# Altium schematic symbol library BMS_slave_v2.SCHLIB: 16 symbols
Pins are listed as number, name and electrical type; pins without a type are passive.

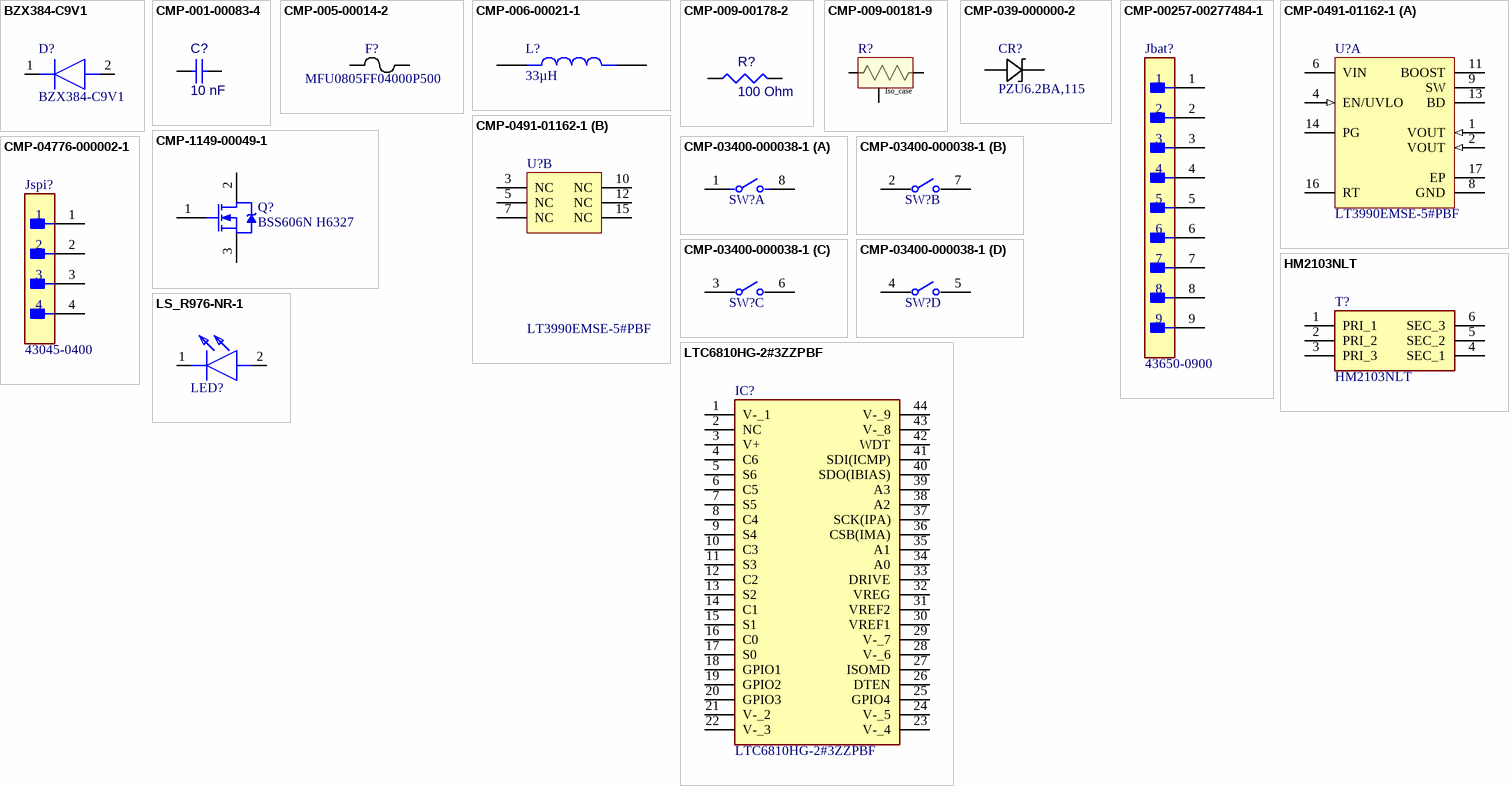
[diagram p0: symbols BZX384-C9V1 to LTC6810HG-2#3ZZPBF]

## BZX384-C9V1
designator D?
Diode; Manufacturer_Name: Nexperia; Datasheet Link: https://datasheet.datasheetarchive.com/originals/distributors/Datasheets-301/11577.pdf; Height: 1.1mm; Manufacturer_Part_Number: BZX384-C9V1
footprint SOD2512X110N
pins: 1 K, 2 A

## CMP-001-00083-4
designator C?, comment 10 nF
0805_generic_capacitor; Component Type: Capacitors
footprint CAPC2012X14M (Chip Capacitor, 2-Leads, Body 2.00x1.25mm, IPC Low Density)
pins: 1, 2

## CMP-005-00014-2
designator F?, comment MFU0805FF04000P500
MFU 0805-FF P5 4A0; Manufacturer_Name: Vishay; Manufacturer_Part_Number: MFU0805FF04000P500; Copyright: Copyright (C) 2026 Ultra Librarian. All rights reserved.; Design Item ID: MFU0805FF04000P500; Pins: 2; Source: MFU0805FF04000P500.SchLib; Component Type: Standard; Component Type: Fuses
footprint FUS_VISHAY_MFU0805_VIS
pins: 1, 2

## CMP-006-00021-1
designator L?, comment value 33µH  (hidden comment: VLS5045EX-330M-H)
Inductor Power Shielded Wirewound 33uH 20% 100KHz Ferrite 1.3A 0.312Ohm DCR Automotive T/R; MF: TDK Corporation; Source: VLS5045EX-330M-H.SchLib; Check_prices: https://www.snapeda.com/parts/VLS5045EX-330M-H/TDK/view-part/?ref=eda; SnapEDA_Link: https://www.snapeda.com/parts/VLS5045EX-330M-H/TDK/view-part/?ref=snap; Case/Package: NON STANDARD-2 TDK; MP: VLS5045EX-330M-H; Pins: 2; Price: None; Design Item ID: VLS5045EX-330M-H; Purchase-URL: https://pricing.snapeda.com/search/part/VLS5045EX-330M-H/?ref=eda; Availability: In Stock; Component Type: Standard; Component Type: Inductors
footprint IND_VLS5045EX-330M-H
pins: 1, 2

## CMP-009-00178-2
designator R?, comment 100 Ohm
805_generic_resistor; Component Type: Resistors
footprint RESC2012X06M (Chip Resistor, 2-Leads, Body 2.00x1.25mm, IPC Low Density)
pins: 1, 2
1 alternate drawing of the same symbol

## CMP-009-00181-9
designator R?, comment DTO025C2R200JTE3  (value not drawn)
Description; Manufacturer_Name: Vishay; Copyright: Copyright (C) 2026 Ultra Librarian. All rights reserved.; Manufacturer_Part_Number: DTO025C2R200JTE3; Pins: 3; Design Item ID: DTO025C2R200JTE3; Component Type: Standard; Source: DTO025C2R200JTE3.SchLib; Component Type: Resistors
footprint RES_DTO025_VIS-M
pins: 1, 2, 3
text: Iso_case

## CMP-00030-00006-1
designator *?, comment UP Karting logo 7x9  (value not drawn)
UP Karting logo 7x9mm; Component Type: Miscellaneous
footprint New footprint 1

## CMP-039-000000-2
designator CR?, comment PZU6.2BA,115
No Description Available; Manufacturer_Name: Nexperia; Source: PZU6P2BA,115.SchLib; Manufacturer_Part_Number: PZU6.2BA,115; Pin Count: 2; Design Item ID: PZU6.2BA,115; Copyright: Copyright (C) 2026 Ultra Librarian. All rights reserved.; Component Type: Standard; Component Type: Diodes
footprint CR_PZUxBA_NEX
pins: 1, 2

## CMP-00257-00277484-1
designator Jbat?, comment 43650-0900
43650-0900 Conn Power HDR 9 POS 3mm Solder RA Thru-Hole 9 Terminal 1 Port Micro-Fit 3.0™ Frame; Manufacturer Lifecycle Status: ACTIVE; NexarPartId: 277484; Voltage Rating: 600V; Connector Type: Male Pin; Gender: Male; Current Rating: 5A; Number of Positions: 9; Glow Wire Compliant: Compliant; Plating: Tin; Voltage Rating (DC): 250V; Halogen Free: Low Halogen; Housing Material: Thermoplastic; Contact Plating: Tin; Termination: Solder; Lifecycle Status: Production; Contact Material: Brass; Fastening Type: Ramp; Country of Origin: US; Housing Color: Black; Min Operating Temperature: -40°C; Max Operating Temperature: 105°C; RoHS: Compliant; Pitch: 3mm; Lead Pitch: 3mm; Number of Contacts: 9; Mount: Through Hole; Orientation: Right Angle, Vertical; Number of Rows: 1; Number of Circuits: 9; Schedule B: 8536695050; Color: Black
footprint FP-43650-0900-MFG (Conn Power HDR 9 POS 3mm Solder RA Thru-Hole 9 Terminal 1 Port Micro-Fit 3.0™ Frame)
pins: 1, 2, 3, 4, 5, 6, 7, 8, 9

## CMP-0491-01162-1
designator U?, comment LT3990EMSE-5#PBF
350 mA Step-Down Regulator with 2.5 uA Quiescent Current and Integrated Diodes, 16-pin SOP (MSE-16-EDP), -40 to 125 degC, Pb-Free; Manufacturer: Linear Technology; Frequency Adjust Range: 200kHz - 2.2MHz; Number of Outputs: 1; PackageDescription: 16-Pin Plastic MSOP, Exposed Die Pad, Body 4.039 x 3 mm, Pitch 0.5 mm; DatasheetVersion: Rev. B; PackageReference: MSE-16; ComponentLink1URL: http://www.linear.com/; PackageVersion: Rev. F, 05/2013; ComponentLink3URL: http://cds.linear.com/docs/en/packaging/05081667_F_MSE16.pdf; ComponentLink2URL: http://cds.linear.com/docs/en/datasheet/3990fa.pdf; RoHS: TRUE; PartNumber: LT3990EMSE-5#PBF; ComponentLink3Description: Package Specification; ComponentLink2Description: Datasheet; ComponentLink1Description: Manufacturer URL; Mounting Technology: Surface Mount
footprint LT-MSE-16-EDP_N (SOP, 16-Leads, Body 4.1x3.1mm, Pitch 0.5mm, Thermal Pad 2.95x1.76mm, IPC Medium Density)
footprint LT-MSE-16-EDP_L (SOP, 16-Leads, Body 4.1x3.1mm, Pitch 0.5mm, Thermal Pad 2.95x1.76mm, IPC High Density)
footprint LT-MSE-16-EDP_M (SOP, 16-Leads, Body 4.1x3.1mm, Pitch 0.5mm, Thermal Pad 2.95x1.76mm, IPC Low Density)
part A pins: 1 VOUT (in) "The LT3990-3.3 and LT3990-5 regulate the VOUT pin to 3.3V and 5V, respectively. This pin connects to the internal feedback divider that programs the fixed output voltage. The two VOUT pins are connected internally and (See Datasheet)", 2 VOUT (in) "The LT3990-3.3 and LT3990-5 regulate the VOUT pin to 3.3V and 5V, respectively. This pin connects to the internal feedback divider that programs the fixed output voltage. The two VOUT pins are connected internally and (See Datasheet)", 4 EN/UVLO (in) "The part is in shutdown when this pin is low and active when this pin is high. The threshold voltage is 1.19V going up with 35mV of hysteresis. Tie to VIN if shutdown feature is not used. The EN/UVLO threshold is accurate (See Datasheet)", 6 VIN (power) "The VIN pin supplies current to the LT3990’s internal circuitry and to the internal power switch. This pin must be locally bypassed.", 8 GND (power) "Ground.", 9 SW (power) "The SW pin is the output of an internal power switch. Connect this pin to the inductor.", 11 BOOST "This pin is used to provide a drive voltage, higher than the input voltage, to the internal bipolar NPN power switch.", 13 BD (power) "This pin connects to the anode of the boost diode. This pin also supplies current to the LT3990’s internal regulator when BD is above 3.2V.", 14 PG (oc) "The PG pin is the open-drain output of an internal comparator. PG remains low until the FB pin is within 10% of the final regulation voltage. PG is valid when VIN is above 4.2V and EN/UVLO is high.", 16 RT "A resistor is tied between RT and ground to set the switching frequency.", 17 EP (power) "Ground. The exposed pad must be soldered to the PCB."
part B pins: 3 NC "No Connects. These pins are not connected to internal circuitry and must be left floating to ensure fault tolerance.", 5 NC "No Connects. These pins are not connected to internal circuitry and must be left floating to ensure fault tolerance.", 7 NC "No Connects. These pins are not connected to internal circuitry and must be left floating to ensure fault tolerance.", 10 NC "No Connects. These pins are not connected to internal circuitry and must be left floating to ensure fault tolerance.", 12 NC "No Connects. These pins are not connected to internal circuitry and must be left floating to ensure fault tolerance.", 15 NC "No Connects. These pins are not connected to internal circuitry and must be left floating to ensure fault tolerance."

## CMP-1149-00049-1
designator Q?, comment BSS606N H6327
OptiMOS-3 Small-Signal-Transistor, 60 V VDS, 3.2 A ID, PG-SOT-89, Reel, Green; Manufacturer: Infineon; VDS (max): 60 V; Green: TRUE; RDS (on) (max): 60 mOhm; Polarity: N; ID (max): 3.2Â A; PackageDescription: 3-Pin Small Outline Transistor Package, 4.5 x 2.5 mm Body, 1.5 mm Pitch; ComponentLink1URL: http://www.infineon.com/; PackageReference: PG-SOT-89; Halogen-free: TRUE; RevisionNote: Lost Devices pt2; Packing: Reel; ComponentLink3URL: http://www.infineon.com/cms/packages/SMD_-_Surface_Mounted_Devices/SOT/SOT089_xSC62x.html?__locale=en; ComponentLink1Description: Manufacturer URL; PartNumber: BSS606N H6327; DatasheetVersion: Rev. 2.2; ComponentLink2Description: Datasheet; Mounting Technology: Surface Mount; PackageVersion: Apr-08; ComponentLink2URL: http://www.infineon.com/dgdl/BSS606N_2.2.pdf?folderId=db3a3043156fd573011622e10b5c1f67&fileId=db3a30433dfcb54c013dfd4f43ed0120; ComponentLink3Description: Package Specification
footprint INF-PG-SOT-89_N (SOT89, 3-Leads, Body 4.5x2.5mm, Pitch 1.5mm, IPC Medium Density)
footprint INF-PG-SOT-89_L (SOT89, 3-Leads, Body 4.5x2.5mm, Pitch 1.5mm, IPC High Density)
footprint INF-PG-SOT-89_M (SOT89, 3-Leads, Body 4.5x2.5mm, Pitch 1.5mm, IPC Low Density)
pins: 1 G, 2 D, 3 S

## CMP-03400-000038-1
designator SW?, comment 1825058-7  (value not drawn)
SWITCH SLIDE DIP SPST 100MA 24V; Pitch: 0.1inch; Number of Positions: 4; Voltage Rating (DC): 5V; Contact Current Rating: 1A; Sealable: No (Without); Housing Material: Polyphenylene; Depth: 9.29mm; Max Voltage Rating (DC): 24V; Contact Plating: Gold; Mount: Surface Mount; Package Quantity: 35; Number of Circuits: 4; Min Operating Temperature: -30°C; Actuator Type: SLIDE; Housing Color: Black; ELV: Compliant; Radiation Hardening: No; Max Current Rating: 100mA; REACH SVHC: No SVHC; Packaging: Rail/Tube; Throw Configuration: SPST; Flammability Rating: UL94 V-0; RoHS Compliant: Yes; Type: Switch; Height: 0.138inch; Orientation: Straight; Termination: Gull Wing; Contact Material: Copper Alloy; Length: 12.14mm; Max Operating Temperature: 85°C
footprint FP-1825058-7-MFG
part A pins: 1, 8
part B pins: 2, 7
part C pins: 3, 6
part D pins: 4, 5

## CMP-04776-000002-1
designator Jspi?, comment 43045-0400
CONN HEADER R/A 4POS 3MM; Manufacturer: Molex; Conn Gender: Male; Conn Orientation: Right Angle; Voltage Rating: 600V; Number Of Contacts: 4; Is Female: yes; Current Rating: 8.5A; ComponentLink2URL: https://www.molex.com/webdocs/datasheets/pdf/en-us/0430450400_PCB_HEADERS.pdf; Manufacturer Part Number: 43045-0400; Digikey Description: CONN HEADER R/A 4POS 3MM; Category: Conn; Temperature Range High: +105°C; Lead Free: Yes; Device Class L1: Connectors; Automotive: No; Temperature: -40°C to +105°C; Footprint Url: https://www.molex.com/pdm_docs/sd/430450400_sd.pdf; Height: 9.27mm; Number Of Rows: 2; Device Class L3: unset; Pitch: 3mm; Temperature Range Low: -40°C; Contact Material: Tin,Nickel; Octopart: https://octopart.com/43045-0400-molex-287063; RoHS: TRUE; ComponentLink2Description: Datasheet; Package: 43045-0400; Device Class L2: Headers and Wire Housings
footprint FP-43045-0400-MFG
pins: 1, 2, 3, 4

## HM2103NLT
designator T?
Transformer; Manufacturer_Name: Yageo Group; Datasheet Link: https://productfinder.pulseeng.com/doc_type/WEB301/doc_num/HM2103NL/doc_part/HM2103NL.pdf; Height: 5.72mm; Manufacturer_Part_Number: HM2103NLT; Mouser Part Number: 673-HM2103NLT; Mouser Price/Stock: https://www.mouser.co.uk/ProductDetail/Pulse-Electronics/HM2103NLT?qs=lYGu3FyN48djzHw7Qak0wA%3D%3D; Arrow Part Number: HM2103NLT; Arrow Price/Stock: null?region=nac
footprint SOP254P940X572-6N
pins: 1 PRI_1, 2 PRI_2, 3 PRI_3, 4 SEC_1, 5 SEC_2, 6 SEC_3

## LS_R976-NR-1
designator LED?  (value not drawn)
LED; Manufacturer_Name: ams OSRAM; Manufacturer_Part_Number: LS R976-NR-1; Datasheet Link: https://datasheet.datasheetarchive.com/originals/distributors/DKDS-18/344792.pdf; Height: 0.4mm; Mouser Part Number: 720-LSR976-NR-1; Mouser Price/Stock: https://www.mouser.co.uk/ProductDetail/ams-OSRAM/LS-R976-NR-1?qs=K5ta8V%252BWhtZhvCAe1sTZFg%3D%3D; Arrow Part Number: LS R976-NR-1; Arrow Price/Stock: https://www.arrow.com/en/products/lsr976-nr-1/osram-opto-semiconductors
footprint LEDC2012X40N
pins: 1 K, 2 A

## LTC6810HG-2#3ZZPBF
designator IC?
Integrated Circuit; Manufacturer_Name: Analog Devices; Datasheet Link: http://www.analog.com/media/en/technical-documentation/data-sheets/LTC6810-1-6810-2.pdf; Height: 2mm; Manufacturer_Part_Number: LTC6810HG-2#3ZZPBF; Mouser Part Number: 584-6810HG23ZZPBF; Mouser Price/Stock: https://www.mouser.co.uk/ProductDetail/Analog-Devices/LTC6810HG-23ZZPBF?qs=byeeYqUIh0Px%2F9hvtPa9Ew%3D%3D; Arrow Part Number: LTC6810HG-2#3ZZPBF; Arrow Price/Stock: https://www.arrow.com/en/products/ltc6810hg-23zzpbf/analog-devices?region=nac
footprint SOP50P780X200-44N
pins: 1 V-_1, 2 NC, 3 V+, 4 C6, 5 S6, 6 C5, 7 S5, 8 C4, 9 S4, 10 C3, 11 S3, 12 C2, 13 S2, 14 C1, 15 S1, 16 C0, 17 S0, 18 GPIO1, 19 GPIO2, 20 GPIO3, 21 V-_2, 22 V-_3, 23 V-_4, 24 V-_5, 25 GPIO4, 26 DTEN, 27 ISOMD, 28 V-_6, 29 V-_7, 30 VREF1, 31 VREF2, 32 VREG, 33 DRIVE, 34 A0, 35 A1, 36 CSB(IMA), 37 SCK(IPA), 38 A2, 39 A3, 40 SDO(IBIAS), 41 SDI(ICMP), 42 WDT, 43 V-_8, 44 V-_9